# Altium integrated library AltiumRehab.IntLib: 5 symbols
Pins are listed as number, name and electrical type; pins without a type are passive.

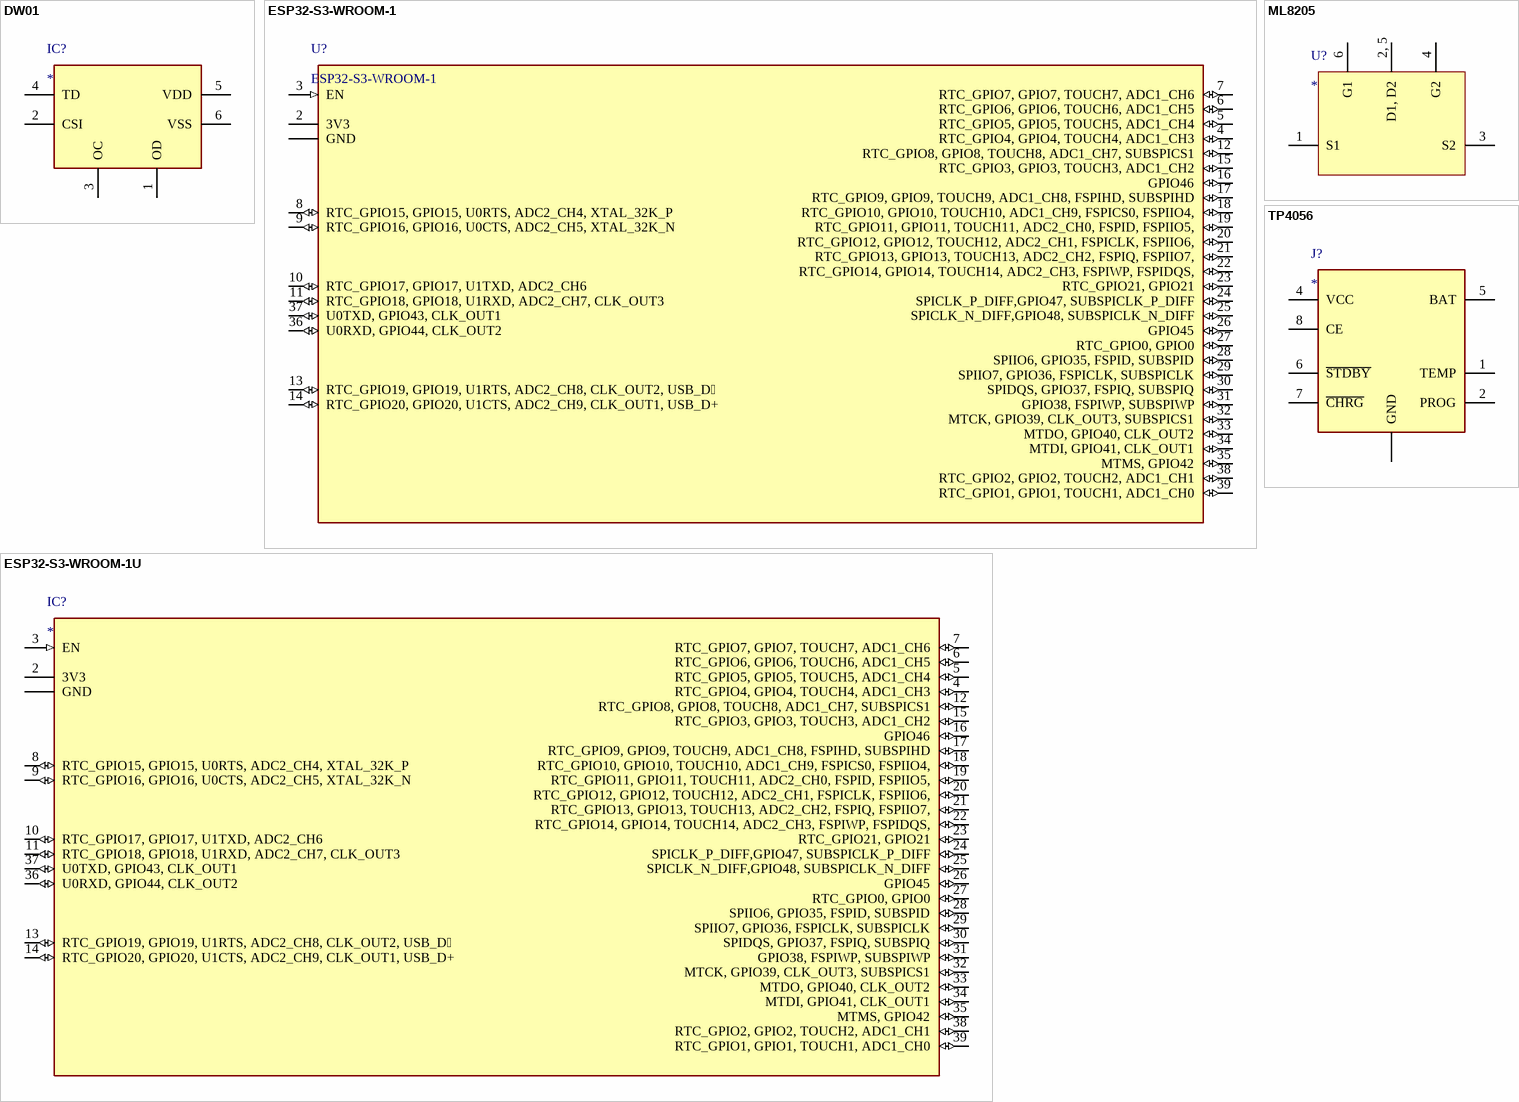
[diagram p0: symbols DW01 to TP4056]

## DW01
designator IC?
Integrated Circuit; Manufacturer_Name: Slkor; Manufacturer_Part_Number: DW01; Description: ic; Datasheet Link: https://datasheet.lcsc.com/szlcsc/1906271838_SLKORMICRO-Elec-DW01_C359989.pdf; Height: 1.35mm
footprint SOT95P280X135-6N
pins: 1 OD, 2 CSI, 3 OC, 4 TD, 5 VDD, 6 VSS

## ESP32-S3-WROOM-1
designator U?
2.4 GHz Wi-Fi (802.11 b/g/n), Bluetooth® 5, ESP32-S3, Xtensa dual-core 32-bit LX7, Flash up to 16 MB, PSRAM up to 16 MB / Up to 36 GPIOs, On-board PCB antenna; Group: MCU; SubGroup: ESP32; Name: ESP32-S3-WROOM-1; ComponentLink1Description: New link; ComponentLink1URL: *
footprint ESP32S3WROOM1N16R8
pins: 1, 40, 41, 42, 43, 44, 45, 46, 47, 48, 49 GND (power), 2 3V3 (power), 3 EN (in), 4 RTC_GPIO4, GPIO4, TOUCH4, ADC1_CH3 (io), 5 RTC_GPIO5, GPIO5, TOUCH5, ADC1_CH4 (io), 6 RTC_GPIO6, GPIO6, TOUCH6, ADC1_CH5 (io), 7 RTC_GPIO7, GPIO7, TOUCH7, ADC1_CH6 (io), 8 RTC_GPIO15, GPIO15, U0RTS, ADC2_CH4, XTAL_32K_P (io), 9 RTC_GPIO16, GPIO16, U0CTS, ADC2_CH5, XTAL_32K_N (io), 10 RTC_GPIO17, GPIO17, U1TXD, ADC2_CH6 (io), 11 RTC_GPIO18, GPIO18, U1RXD, ADC2_CH7, CLK_OUT3 (io), 12 RTC_GPIO8, GPIO8, TOUCH8, ADC1_CH7, SUBSPICS1 (io), 13 RTC_GPIO19, GPIO19, U1RTS, ADC2_CH8, CLK_OUT2, USB_D (io), 14 RTC_GPIO20, GPIO20, U1CTS, ADC2_CH9, CLK_OUT1, USB_D+ (io), 15 RTC_GPIO3, GPIO3, TOUCH3, ADC1_CH2 (io), 16 GPIO46 (io), 17 RTC_GPIO9, GPIO9, TOUCH9, ADC1_CH8, FSPIHD, SUBSPIHD (io), 18 RTC_GPIO10, GPIO10, TOUCH10, ADC1_CH9, FSPICS0, FSPIIO4, (io), 19 RTC_GPIO11, GPIO11, TOUCH11, ADC2_CH0, FSPID, FSPIIO5, (io), 20 RTC_GPIO12, GPIO12, TOUCH12, ADC2_CH1, FSPICLK, FSPIIO6, (io), 21 RTC_GPIO13, GPIO13, TOUCH13, ADC2_CH2, FSPIQ, FSPIIO7, (io), 22 RTC_GPIO14, GPIO14, TOUCH14, ADC2_CH3, FSPIWP, FSPIDQS, (io), 23 RTC_GPIO21, GPIO21 (io), 24 SPICLK_P_DIFF,GPIO47, SUBSPICLK_P_DIFF (io), 25 SPICLK_N_DIFF,GPIO48, SUBSPICLK_N_DIFF (io), 26 GPIO45 (io), 27 RTC_GPIO0, GPIO0 (io), 28 SPIIO6, GPIO35, FSPID, SUBSPID (io), 29 SPIIO7, GPIO36, FSPICLK, SUBSPICLK (io), 30 SPIDQS, GPIO37, FSPIQ, SUBSPIQ (io), 31 GPIO38, FSPIWP, SUBSPIWP (io), 32 MTCK, GPIO39, CLK_OUT3, SUBSPICS1 (io), 33 MTDO, GPIO40, CLK_OUT2 (io), 34 MTDI, GPIO41, CLK_OUT1 (io), 35 MTMS, GPIO42 (io), 36 U0RXD, GPIO44, CLK_OUT2 (io), 37 U0TXD, GPIO43, CLK_OUT1 (io), 38 RTC_GPIO2, GPIO2, TOUCH2, ADC1_CH1 (io), 39 RTC_GPIO1, GPIO1, TOUCH1, ADC1_CH0 (io)

## ESP32-S3-WROOM-1U
designator IC?
Integrated Circuit; Manufacturer_Name: Espressif Systems; Manufacturer_Part_Number: ESP32-S3-WROOM-1U-N16; Datasheet Link: https://www.espressif.com/sites/default/files/documentation/esp32-s3-wroom-1_wroom-1u_datasheet_en.pdf; Height: 3.35mm; Mouser Part Number: 356-ESP32S3WROM1UN16; Mouser Price/Stock: https://www.mouser.co.uk/ProductDetail/Espressif-Systems/ESP32-S3-WROOM-1U-N16?qs=Li%252BoUPsLEntAI1ynUyotnA%3D%3D
footprint ESP32S3WROOM1UN16
pins: 1, 40, 41, 42, 43, 44, 45, 46, 47, 48, 49 GND (power), 2 3V3 (power), 3 EN (in), 4 RTC_GPIO4, GPIO4, TOUCH4, ADC1_CH3 (io), 5 RTC_GPIO5, GPIO5, TOUCH5, ADC1_CH4 (io), 6 RTC_GPIO6, GPIO6, TOUCH6, ADC1_CH5 (io), 7 RTC_GPIO7, GPIO7, TOUCH7, ADC1_CH6 (io), 8 RTC_GPIO15, GPIO15, U0RTS, ADC2_CH4, XTAL_32K_P (io), 9 RTC_GPIO16, GPIO16, U0CTS, ADC2_CH5, XTAL_32K_N (io), 10 RTC_GPIO17, GPIO17, U1TXD, ADC2_CH6 (io), 11 RTC_GPIO18, GPIO18, U1RXD, ADC2_CH7, CLK_OUT3 (io), 12 RTC_GPIO8, GPIO8, TOUCH8, ADC1_CH7, SUBSPICS1 (io), 13 RTC_GPIO19, GPIO19, U1RTS, ADC2_CH8, CLK_OUT2, USB_D (io), 14 RTC_GPIO20, GPIO20, U1CTS, ADC2_CH9, CLK_OUT1, USB_D+ (io), 15 RTC_GPIO3, GPIO3, TOUCH3, ADC1_CH2 (io), 16 GPIO46 (io), 17 RTC_GPIO9, GPIO9, TOUCH9, ADC1_CH8, FSPIHD, SUBSPIHD (io), 18 RTC_GPIO10, GPIO10, TOUCH10, ADC1_CH9, FSPICS0, FSPIIO4, (io), 19 RTC_GPIO11, GPIO11, TOUCH11, ADC2_CH0, FSPID, FSPIIO5, (io), 20 RTC_GPIO12, GPIO12, TOUCH12, ADC2_CH1, FSPICLK, FSPIIO6, (io), 21 RTC_GPIO13, GPIO13, TOUCH13, ADC2_CH2, FSPIQ, FSPIIO7, (io), 22 RTC_GPIO14, GPIO14, TOUCH14, ADC2_CH3, FSPIWP, FSPIDQS, (io), 23 RTC_GPIO21, GPIO21 (io), 24 SPICLK_P_DIFF,GPIO47, SUBSPICLK_P_DIFF (io), 25 SPICLK_N_DIFF,GPIO48, SUBSPICLK_N_DIFF (io), 26 GPIO45 (io), 27 RTC_GPIO0, GPIO0 (io), 28 SPIIO6, GPIO35, FSPID, SUBSPID (io), 29 SPIIO7, GPIO36, FSPICLK, SUBSPICLK (io), 30 SPIDQS, GPIO37, FSPIQ, SUBSPIQ (io), 31 GPIO38, FSPIWP, SUBSPIWP (io), 32 MTCK, GPIO39, CLK_OUT3, SUBSPICS1 (io), 33 MTDO, GPIO40, CLK_OUT2 (io), 34 MTDI, GPIO41, CLK_OUT1 (io), 35 MTMS, GPIO42 (io), 36 U0RXD, GPIO44, CLK_OUT2 (io), 37 U0TXD, GPIO43, CLK_OUT1 (io), 38 RTC_GPIO2, GPIO2, TOUCH2, ADC1_CH1 (io), 39 RTC_GPIO1, GPIO1, TOUCH1, ADC1_CH0 (io)

## ML8205
designator U?
footprint SOT-23-6 (SOT23, 6-Leads, Body 2,90x2,80mm, Pitch 0,95mm, IPC Medium Density)
pins: 1 S1, 2, 5 D1, D2, 3 S2, 4 G2, 6 G1

## TP4056
designator J?
Connector; Manufacturer_Name: NanJing Top Power; Manufacturer_Part_Number: TP4056; Datasheet Link: https://dlnmh9ip6v2uc.cloudfront.net/datasheets/Prototyping/TP4056.pdf; Height: 1.75mm
footprint SOIC127P600X175-9N
pins: 1 TEMP, 2 PROG, 3, 9 GND, 4 VCC, 5 BAT, 6 ~{STDBY}, 7 ~{CHRG}, 8 CE